# Altium footprint library FootPrintLib_4.PcbLib: 700 footprints (part 35 of 44)
Each footprint in its own frame and in the unit in brackets; x right, y up, seen from the top. Pads: shape width x height; smd on the part's side, far side on the other; paste and mask are expansions set on the pad; w line width, h text height; cw(c..) or ccw(c..) is an arc to the next point about the centre after c.
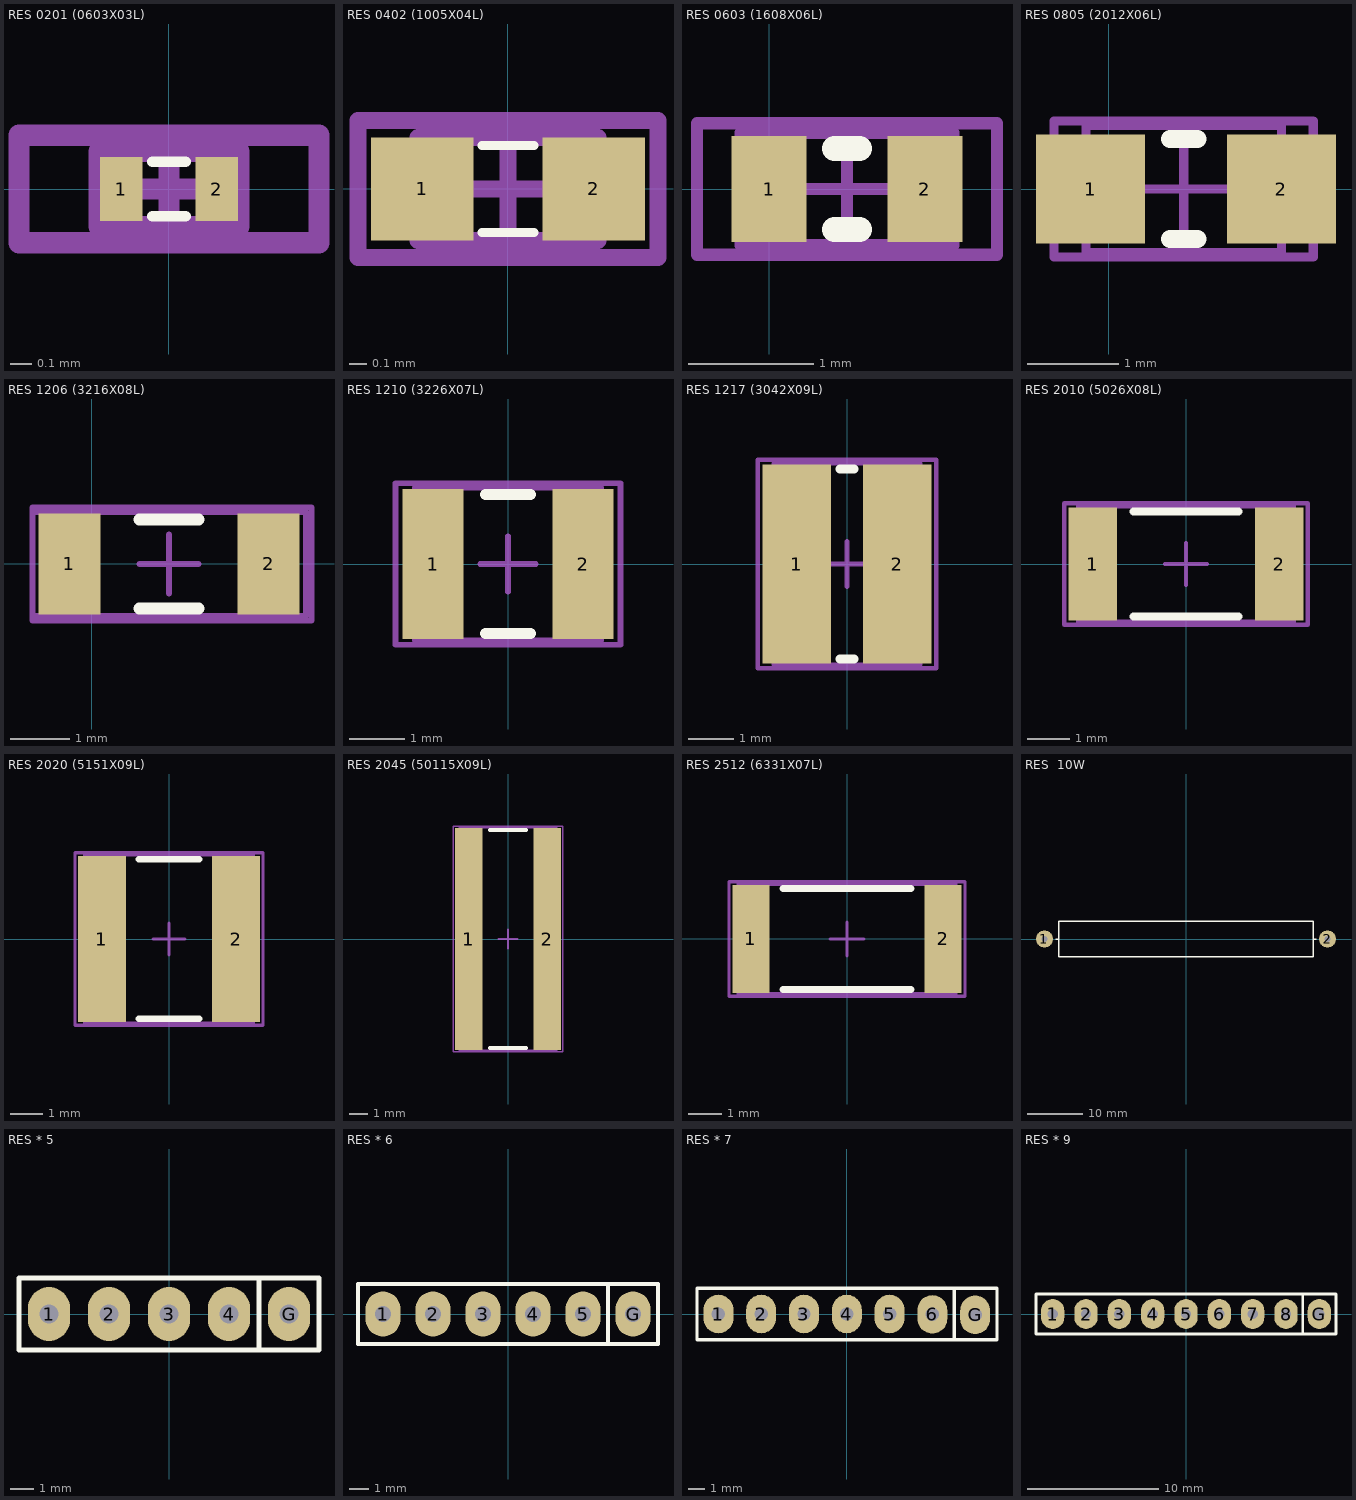
[diagram p34: the footprints below, top view; thin cyan lines are the x and y axes]

## RES 0201 (0603X03L) [mm] "Chip Resistor, 2-Leads, Body 0.6x0.3mm, IPC High Density (0.05 W)"
height 0.3
pads (2):
  rect 0.2x0.3 smd: 1(-0.223,0) 2(0.223,0)
Top Overlay:
  lines w0.051: -0.076,-0.127 0.076,-0.127 ; -0.076,0.127 0.076,0.127
Mechanical 13:
  lines w0.1: -0.325,-0.175 -0.325,0.175 0.325,0.175 0.325,-0.175 -0.325,-0.175
Mechanical 15:
  lines w0.1: -0.175,0 0.175,0 ; 0,-0.175 0,0.175 ; -0.7,-0.25 -0.7,0.25 0.7,0.25 0.7,-0.25 -0.7,-0.25
3D body "0201.STEP": height 0.25, standoff 0, extent -0.254,-0.127 0.254,0.127

## RES 0402 (1005X04L) [mm] "Chip Resistor, 2-Leads, Body 1.0x0.5mm, IPC High Density _ (0.031/0.063 W)"
height 0.4
pads (2):
  rect 0.6x0.6 smd: 1(-0.5,0) 2(0.5,0)
Top Overlay:
  lines w0.051: -0.152,-0.254 0.152,-0.254 ; -0.152,0.254 0.152,0.254
Mechanical 13:
  lines w0.1: -0.525,-0.3 0.525,-0.3 0.525,0.3 -0.525,0.3 -0.525,-0.3
Mechanical 15:
  lines w0.1: -0.3,0 0.3,0 ; 0,-0.3 0,0.3 ; -0.875,-0.4 0.875,-0.4 0.875,0.4 -0.875,0.4 -0.875,-0.4
3D body "0402.STEP": height 0.35, standoff 0, extent -0.508,-0.254 0.508,0.254

## RES 0603 (1608X06L) [mm] "Chip Resistor, 2-Leads, Body 1.6x0.8mm, IPC High Density _ (0.063W)"
height 0.6
pads (2):
  rect 0.6x0.85 smd: 1(0,0) 2(1.244,0)
Top Overlay:
  lines w0.2: 0.522,-0.325 0.722,-0.325 ; 0.522,0.325 0.722,0.325
Mechanical 13:
  lines w0.1: -0.228,-0.45 -0.228,0.45 1.472,0.45 1.472,-0.45 -0.228,-0.45
Mechanical 15:
  lines w0.1: 0.172,0 1.072,0 ; 0.622,-0.45 0.622,0.45 ; -0.578,-0.525 -0.578,0.525 1.822,0.525 1.822,-0.525 -0.578,-0.525
3D body "0603.STEP": height 0.45, standoff 0, extent -0.14,-0.381 1.384,0.381

## RES 0805 (2012X06L) [mm] "Chip Resistor, 2-Leads, Body 2.0x1.3mm, IPC High Density _ (0.100 W)"
height 0.65
pads (2):
  rect 1.2x1.2 smd: 1(-0.2,0) 2(1.9,0)
Top Overlay:
  lines w0.2: 0.675,-0.55 0.975,-0.55 ; 0.675,0.55 0.975,0.55
Mechanical 13:
  lines w0.1: -0.25,-0.7 -0.25,0.7 1.9,0.7 1.9,-0.7 -0.25,-0.7
Mechanical 15:
  lines w0.1: 0.325,0 1.325,0 ; 0.825,-0.5 0.825,0.5 ; -0.6,-0.75 -0.6,0.75 2.25,0.75 2.25,-0.75 -0.6,-0.75
3D body "0805.STEP": height 0.6, standoff 0, extent -0.191,-0.635 1.841,0.635

## RES 1206 (3216X08L) [mm] "Chip Resistor, 2-Leads, Body 3.2x1.6mm, IPC High Density _ (0.125 W)"
height 0.75
pads (2):
  rect 1.05x1.7 smd: 1(-0.377,0) 2(2.973,0)
Top Overlay:
  lines w0.2: 0.798,-0.75 1.798,-0.75 ; 0.798,0.75 1.798,0.75
Mechanical 13:
  lines w0.1: -1,-0.875 -1,0.875 3.6,0.875 3.6,-0.875 -1,-0.875
Mechanical 15:
  lines w0.1: 0.798,0 1.798,0 ; 1.298,-0.5 1.298,0.5 ; -1,-0.95 -1,0.95 3.7,0.95 3.7,-0.95 -1,-0.95
3D body "1206.STEP": height 0.6, standoff 0, extent -0.226,-0.762 2.822,0.762

## RES 1210 (3226X07L) [mm] "Chip Resistor, 2-Leads, Body 3.2x2.6mm, IPC High Density _ (0.250 W)"
height 0.7
pads (2):
  rect 1.1x2.7 smd: 1(-1.35,0) 2(1.35,0)
Top Overlay:
  lines w0.2: -0.4,-1.25 0.4,-1.25 ; -0.4,1.25 0.4,1.25
Mechanical 13:
  lines w0.1: -1.675,-1.375 -1.675,1.375 1.675,1.375 1.675,-1.375 -1.675,-1.375
Mechanical 15:
  lines w0.1: -0.5,0 0.5,0 ; 0,-0.5 0,0.5 ; -2.025,-1.45 -2.025,1.45 2.025,1.45 2.025,-1.45 -2.025,-1.45
3D body "1210.STEP": height 0.6, standoff 0, extent -1.524,-1.27 1.524,1.27

## RES 1217 (3042X09L) [mm] "Chip Resistor, 2-Leads, Body 3.0x4.2mm, IPC High Density _ (0.250 W)"
height 0.9
pads (2):
  rect 1.5x4.35 smd: 1(-1.1,0) 2(1.1,0)
Top Overlay:
  lines w0.2: -0.15,-2.075 0.15,-2.075 ; -0.15,2.075 0.15,2.075
Mechanical 13:
  lines w0.1: -1.6,-2.2 -1.6,2.2 1.6,2.2 1.6,-2.2 -1.6,-2.2
Mechanical 15:
  lines w0.1: -0.5,0 0.5,0 ; 0,-0.5 0,0.5 ; -1.95,-2.275 -1.95,2.275 1.95,2.275 1.95,-2.275 -1.95,-2.275
3D body "1217.STEP": height 0.9, standoff 0, extent -1.524,-2.159 1.524,2.159

## RES 2010 (5026X08L) [mm] "Chip Resistor, 2-Leads, Body 5.0x2.6mm, IPC High Density _ (0.250 W)"
height 0.8
pads (2):
  rect 1.15x2.7 smd: 1(-2.225,0) 2(2.225,0)
Top Overlay:
  lines w0.2: -1.25,-1.25 1.25,-1.25 ; -1.25,1.25 1.25,1.25
Mechanical 13:
  lines w0.1: -2.575,-1.375 -2.575,1.375 2.575,1.375 2.575,-1.375 -2.575,-1.375
Mechanical 15:
  lines w0.1: -0.5,0 0.5,0 ; 0,-0.5 0,0.5 ; -2.9,-1.45 -2.9,1.45 2.9,1.45 2.9,-1.45 -2.9,-1.45
3D body "2010.STEP": height 0.6, standoff 0, extent -2.54,-1.27 2.54,1.27

## RES 2020 (5151X09L) [mm] "Chip Resistor, 2-Leads, Body 5.1x5.1mm, IPC High Density _ (0.5 W)"
height 0.9
pads (2):
  rect 1.5x5.2 smd: 1(-2.1,0) 2(2.1,0)
Top Overlay:
  lines w0.2: -0.95,-2.5 0.95,-2.5 ; -0.95,2.5 0.95,2.5
Mechanical 13:
  lines w0.1: -2.64,-2.64 2.64,-2.64 2.64,2.64 -2.64,2.64 -2.64,-2.64
Mechanical 15:
  lines w0.1: -0.5,0 0.5,0 ; 0,-0.5 0,0.5 ; -2.95,-2.7 2.95,-2.7 2.95,2.7 -2.95,2.7 -2.95,-2.7
3D body "2020.STEP": height 0.9, standoff 0, extent -2.54,-2.54 2.54,2.54

## RES 2045 (50115X09L) [mm] "Chip Resistor, 2-Leads, Body 5.0x11.5mm, IPC High Density _ (1.0 W)"
height 0.9
pads (2):
  rect 1.45x11.75 smd: 1(-2.075,0) 2(2.075,0)
Top Overlay:
  lines w0.2: -0.95,-5.775 0.95,-5.775 ; -0.95,5.775 0.95,5.775
Mechanical 13:
  lines w0.1: -2.575,-5.9 -2.575,5.9 2.575,5.9 2.575,-5.9 -2.575,-5.9
Mechanical 15:
  lines w0.1: -0.5,0 0.5,0 ; 0,-0.5 0,0.5 ; -2.9,-5.975 -2.9,5.975 2.9,5.975 2.9,-5.975 -2.9,-5.975
3D body "2045.STEP": height 0.9, standoff 0, extent -2.54,-5.715 2.54,5.715

## RES 2512 (6331X07L) [mm] "Chip Resistor, 2-Leads, Body 6.3x3.1mm, IPC High Density _ (0.500 W)"
height 0.7
pads (2):
  rect 1.1x3.2 smd: 1(-2.85,0) 2(2.85,0)
Top Overlay:
  lines w0.2: -1.9,-1.5 1.9,-1.5 ; -1.9,1.5 1.9,1.5
Mechanical 13:
  lines w0.1: -3.225,-1.625 -3.225,1.625 3.225,1.625 3.225,-1.625 -3.225,-1.625
Mechanical 15:
  lines w0.1: -0.5,0 0.5,0 ; 0,-0.5 0,0.5 ; -3.5,-1.7 -3.5,1.7 3.5,1.7 3.5,-1.7 -3.5,-1.7
3D body "2512.STEP": height 0.6, standoff 0, extent -3.175,-1.524 3.175,1.524

## RES  10W [mil]
pads (2):
  round 120 hole 39.37: 1(-1000,0) 2(1000,0)
Top Overlay:
  lines w10: -920,0 -900,0 ; 920,0 900,0 ; -900,0 -900,-125 900,-125 900,0 ; -900,0 -900,125 900,125 900,0
3D body "????????_10??.stp": height 401.57, standoff -52.87, extent -1050.19,-198.82 1050.19,206.69

## RES * 5 [mil]
pads (5):
  oval 70x90 hole 31.5: 1(-200,0) 2(-100,0) 3(0,0) 4(100,0) G(200,0)
Top Overlay:
  lines w8: 150,-60 150,60 ; -250,-60 -250,60 250,60 250,-60 -250,-60

## RES * 6 [mil]
pads (6):
  oval 70x90 hole 31.5: 1(-250,0) 2(-150,0) 3(-50,0) 4(50,0) 5(150,0) G(250,0)
Top Overlay:
  lines w8: 200,-60 200,60 ; -300,-60 300,-60 300,60 -300,60 -300,-60

## RES * 7 [mil]
pads (7):
  oval 70x90 hole 31.5: 1(-300,1) 2(-200,1) 3(-100,1) 4(0,1) 5(100,1) 6(200,0) G(300,-1)
Top Overlay:
  lines w8: 251,-59 251,61 ; -350,-59 -350,61 351,61 351,-59 -350,-59

## RES * 9 [mil]
pads (9):
  oval 70x90 hole 31.5: 1(-400,0) 2(-300,0) 3(-200,0) 4(-100,0) 5(0,0) 6(100,0) 7(200,0) 8(300,0) G(400,0)
Top Overlay:
  lines w8: 350,-60 350,60 ; -450,-60 -450,60 450,60 450,-60 -450,-60